# Altium footprint library Key4415.PcbLib: 1 footprints
Each footprint in its own frame and in the unit in brackets; x right, y up, seen from the top. Pads: shape width x height; smd on the part's side, far side on the other; paste and mask are expansions set on the pad; w line width, h text height; cw(c..) or ccw(c..) is an arc to the next point about the centre after c.
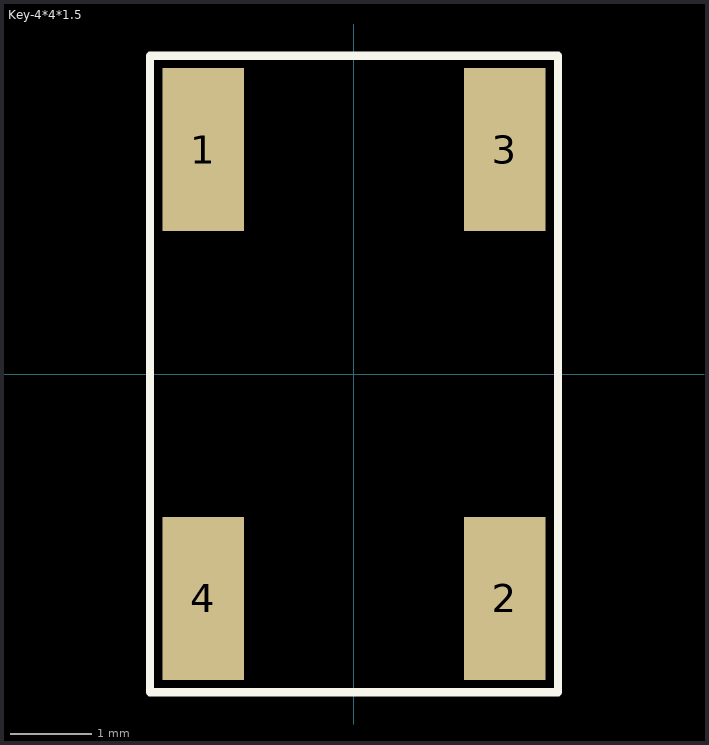
[diagram p0: the footprint, top view; thin cyan lines are the x and y axes]

## Key-4*4*1.5 [mm]
height 0.1
pads (4):
  rect 1x2 smd: 1(-1.85,2.75) 2(1.85,-2.75) 3(1.85,2.75) 4(-1.85,-2.75)
Top Overlay:
  lines w0.1: -2.5,-3.9 2.5,-3.9 2.5,3.9 -2.5,3.9 -2.5,-3.9